# EAGLE library part NRF24L01+ (library comp_wirelessnode)
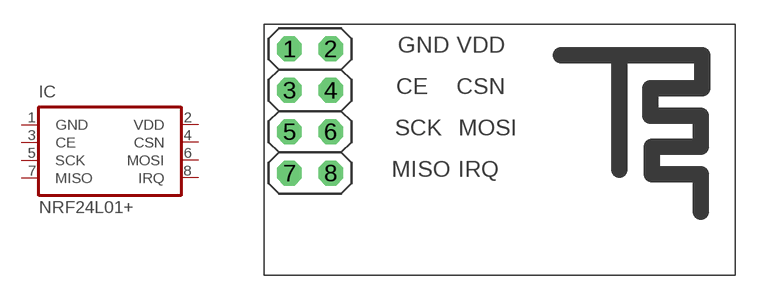
[diagram p0: symbol with the pads of NRF24L01+; footprint NRF24L01+]

Designator prefix IC

## NRF24L01+  [NRF24L01+]
1  GND  nc
2  VDD  nc
3  CE  nc
4  CSN  nc
5  SCK  nc
6  MOSI  nc
7  MISO  nc
8  IRQ  nc

## Footprint NRF24L01+ (pad centres in mm)
drill 1.016 octagon: 1 1.54,13.9; 2 4.08,13.9; 3 1.54,11.36; 4 4.08,11.36; 5 1.54,8.82; 6 4.08,8.82; 7 1.54,6.28; 8 4.08,6.28